# EAGLE library part M18 (library Particle)
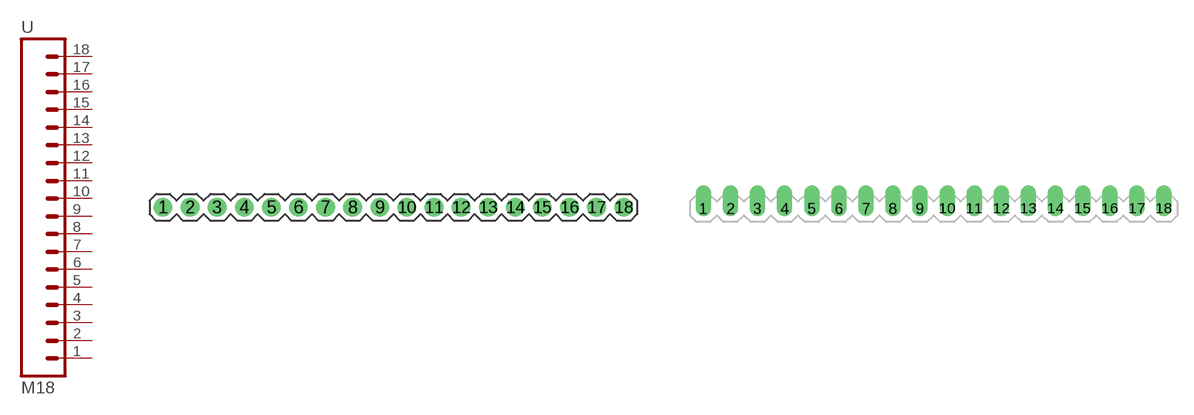
[diagram p23: symbol with the pads of 1X18-SMALL-PADS; footprints 1X18-SMALL-PADS, 1X18-D-PADS]

Designator prefix -

## M18PTH  [1X18-SMALL-PADS]
1  1  pas
2  2  pas
3  3  pas
4  4  pas
5  5  pas
6  6  pas
7  7  pas
8  8  pas
9  9  pas
10  10  pas
11  11  pas
12  12  pas
13  13  pas
14  14  pas
15  15  pas
16  16  pas
17  17  pas
18  18  pas

## M18DPAD  [1X18-D-PADS]
Pads as for 1X18-SMALL-PADS

## M18SQR  [1X18-SQR-LONG-PADS]
1  1  pas
2  2  pas
3  3  pas
4  4  pas
5  5  pas
6  6  pas
7  7  pas
8  8  pas
9  9  pas
10  10  pas
11  11  pas
12  12  pas
13  13  pas
14  14  pas
15  15  pas
16  16  pas
17  17  pas
18  18  pas
19  1  pas
20  2  pas
21  3  pas
22  4  pas
23  5  pas
24  6  pas
25  7  pas
26  8  pas
27  9  pas
28  10  pas
29  11  pas
30  12  pas
31  13  pas
32  14  pas
33  15  pas
34  16  pas
35  17  pas
36  18  pas
37  1  pas
38  2  pas
39  3  pas
40  4  pas
41  5  pas
42  6  pas
43  7  pas
44  8  pas
45  9  pas
46  10  pas
47  11  pas
48  12  pas
49  13  pas
50  14  pas
51  15  pas
52  16  pas
53  17  pas
54  18  pas

## Footprint 1X18-SMALL-PADS (pad centres in mm)
drill 0.889 pad 1.753: 1 -20.32,0; 2 -17.78,0; 3 -15.24,0; 4 -12.7,0; 5 -10.16,0; 6 -7.62,0; 7 -5.08,0; 8 -2.54,0; 9 0,0; 10 2.54,0; 11 5.08,0; 12 7.62,0; 13 10.16,0; 14 12.7,0; 15 15.24,0; 16 17.78,0; 17 20.32,0; 18 22.86,0

## Footprint 1X18-D-PADS (pad centres in mm)
drill 0.889 pad 1.473 offset: 1 -21.59,0; 2 -19.05,0; 3 -16.51,0; 4 -13.97,0; 5 -11.43,0; 6 -8.89,0; 7 -6.35,0; 8 -3.81,0; 9 -1.27,0; 10 1.27,0; 11 3.81,0; 12 6.35,0; 13 8.89,0; 14 11.43,0; 15 13.97,0; 16 16.51,0; 17 19.05,0; 18 21.59,0

## Footprint 1X18-SQR-LONG-PADS (pad centres in mm)
drill 0.889 pad 1.473 square: 1 -21.59,0; 2 -19.05,0; 3 -16.51,0; 4 -13.97,0; 5 -11.43,0; 6 -8.89,0; 7 -6.35,0; 8 -3.81,0; 9 -1.27,0; 11 3.81,0; 12 6.35,0; 13 8.89,0; 14 11.43,0; 16 16.51,0; 17 19.05,0; 18 21.59,0
drill 0.889 pad 1.473 octagon: 10 1.27,0; 15 13.97,0
smd 1.473 x 1.27: 19 -21.59,0.635; 20 -19.05,0.635; 21 -16.51,0.635; 22 -13.97,0.635; 23 -11.43,0.635; 24 -8.89,0.635; 25 -6.35,0.635; 26 -3.81,0.635; 27 -1.27,0.635; 28 1.27,0.635; 29 3.81,0.635; 30 6.35,0.635; 31 8.89,0.635; 32 11.43,0.635; 33 13.97,0.635; 34 16.51,0.635; 35 19.05,0.635; 36 21.59,0.635
smd 1.473 x 1.27 bottom: 37 -21.59,0.635; 38 -19.05,0.635; 39 -16.51,0.635; 40 -13.97,0.635; 41 -11.43,0.635; 42 -8.89,0.635; 43 -6.35,0.635; 44 -3.81,0.635; 45 -1.27,0.635; 46 1.27,0.635; 47 3.81,0.635; 48 6.35,0.635; 49 8.89,0.635; 50 11.43,0.635; 51 13.97,0.635; 52 16.51,0.635; 53 19.05,0.635; 54 21.59,0.635